# EAGLE library part 151224-8422-TB (library 3M_By_element14_Batch_1)
Header
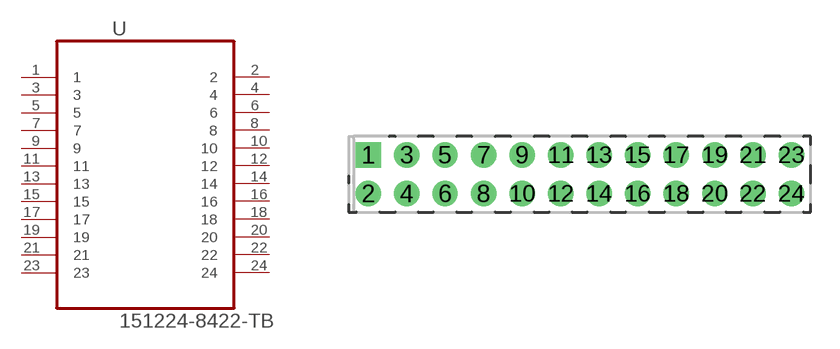
[diagram p15: symbol with the pads of 3M_151224-8422-TB; footprint 3M_151224-8422-TB]

Designator prefix -

## 151224-8422-TB (MPN: 151224-8422-TB; OC_FARNELL: -; OC_NEWARK: 50H5859; PACKAGE: Header-24Pin; SUPPLIER: 3M)  [3M_151224-8422-TB]
1  1  pas
2  2  pas
3  3  pas
4  4  pas
5  5  pas
6  6  pas
7  7  pas
8  8  pas
9  9  pas
10  10  pas
11  11  pas
12  12  pas
13  13  pas
14  14  pas
15  15  pas
16  16  pas
17  17  pas
18  18  pas
19  19  pas
20  20  pas
21  21  pas
22  22  pas
23  23  pas
24  24  pas

## Footprint 3M_151224-8422-TB (pad centres in mm)
drill 0.813 square: 1 -21.996,2.007
drill 0.813: 2 -21.996,0; 3 -19.99,2.007; 4 -19.99,0; 5 -18.009,2.007; 6 -18.009,0; 7 -16.002,2.007; 8 -16.002,0; 9 -13.995,2.007; 10 -13.995,0; 11 -11.989,2.007; 12 -11.989,0; 13 -10.008,2.007; 14 -10.008,0; 15 -8.001,2.007; 16 -8.001,0; 17 -5.994,2.007; 18 -5.994,0; 19 -3.988,2.007; 20 -3.988,0; 21 -2.007,2.007; 22 -2.007,0; 23 0,2.007; 24 0,0